# Altium footprint library 694106301002.PcbLib: 1 footprints
Each footprint in its own frame and in the unit in brackets; x right, y up, seen from the top. Pads: shape width x height; smd on the part's side, far side on the other; paste and mask are expansions set on the pad; w line width, h text height; cw(c..) or ccw(c..) is an arc to the next point about the centre after c.
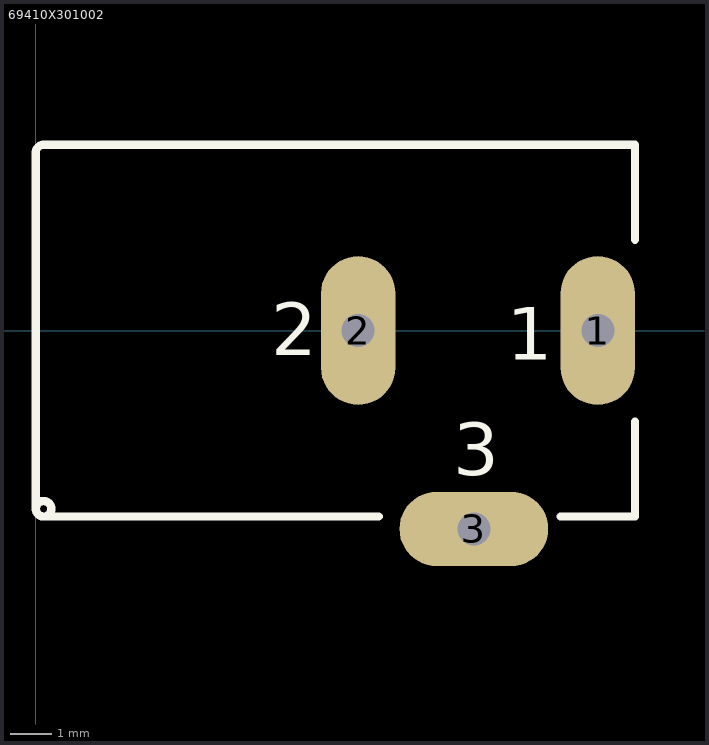
[diagram p0: the footprint, top view; thin cyan lines are the x and y axes]

## 69410X301002 [mm]
pads (3):
  oval 1.8x3.6 hole 0.8 square: 1(13.6,0) 2(7.8,0)
  oval 3.6x1.8 hole 0.8 square: 3(10.6,-4.8)
Top Overlay:
  circle w0.2: c0.19,-4.312 r0.188
  lines w0.2: 0,-4.302 ccw(c0.188,-4.312) 0.201,-4.5 ; 0,-4.3 0,4.3 ; 0,4.299 cw(c0.188,4.312) 0.198,4.5 ; 0.2,-4.5 8.3,-4.5 ; 0.2,4.5 14.5,4.5 14.5,2.2 ; 12.7,-4.5 14.5,-4.5 14.5,-2.2
  text "2" at 5.7,-0.6 h1.27
  text "1" at 11.4,-0.7 h1.27
  text "3" at 10.1,-3.5 h1.27
Mechanical 13:
  text "PCB Edge" at 1.135,-2.375 h0.81